# Altium schematic symbol library TDII_Lib_V2.SchLib: 28 symbols
Pins are listed as number, name and electrical type; pins without a type are passive.

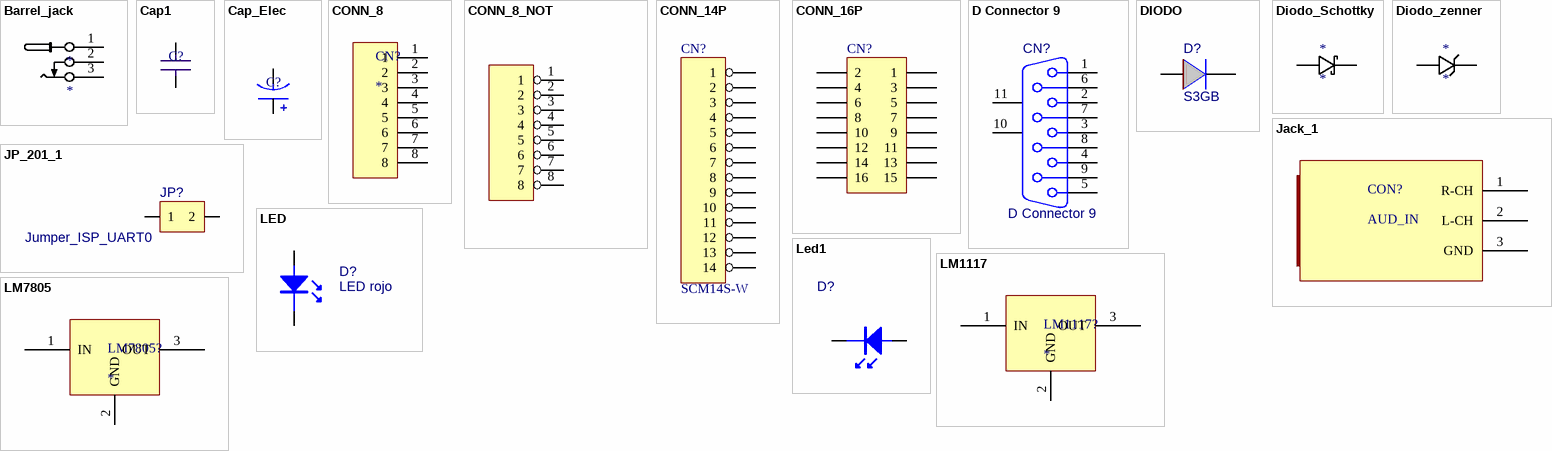
[diagram p0: symbols Barrel_jack to LM7805]

## Barrel_jack
designator *
pins: 1, 2, 3

## Cap1
designator C?  (value not drawn)
Capacitor; C: *
footprint 0805 (Pasivo 0805)
pins: 1, 2

## Cap_Elec
designator C?, comment C  (value not drawn)
Capacitor; Material: *; Part number: *
footprint 0805 (Pasivo 0805)
pins: 1, 2

## CONN_8
designator CN?
Connector 8 Vias
pins: 1, 2, 3, 4, 5, 6, 7, 8

## CONN_8_NOT
designator CN?
Connector 8 Vias with point
pins: 1, 2, 3, 4, 5, 6, 7, 8

## CONN_14P
designator CN?, comment SCM14S-W
Connector 14 Vias
pins: 1, 2, 3, 4, 5, 6, 7, 8, 9, 10, 11, 12, 13, 14

## CONN_16P
designator CN?
Connector 16 Vias
pins: 1, 2, 3, 4, 5, 6, 7, 8, 9, 10, 11, 12, 13, 14, 15, 16

## D Connector 9
designator CN?
Receptacle Assembly, 9 Position, Right Angle; Revision: 17-Jul-2002: Re-released for DXP Platform.
pins: 1, 2, 3, 4, 5, 6, 7, 8, 9, 10 MH1, 11 MH2

## DIODO
designator D?, comment S3GB
Diode signal
footprint D_SMA
pins: 1 A, 2 K

## Diodo_Schottky
designator *
pins: A, K

## Diodo_zenner
designator *
pins: A, K

## Jack_1
designator CON?, comment AUD_IN
pins: 1 R-CH, 2 L-CH, 3 GND

## JP_201_1
designator JP?, comment Jumper_ISP_UART0
Jumper
pins: 1, 2

## LED
designator D?, comment LED rojo
LED
footprint rb-.1/.2
footprint led3000
pins: 1, 2

## Led1
designator D?
Led
pins: 1 A, 2 K

## LM1117
designator LM1117?
Regulador 3V3
pins: 1 IN, 2 GND, 3 OUT

## LM7805
designator LM7805?
Regulador 5V
pins: 1 IN, 2 GND, 3 OUT

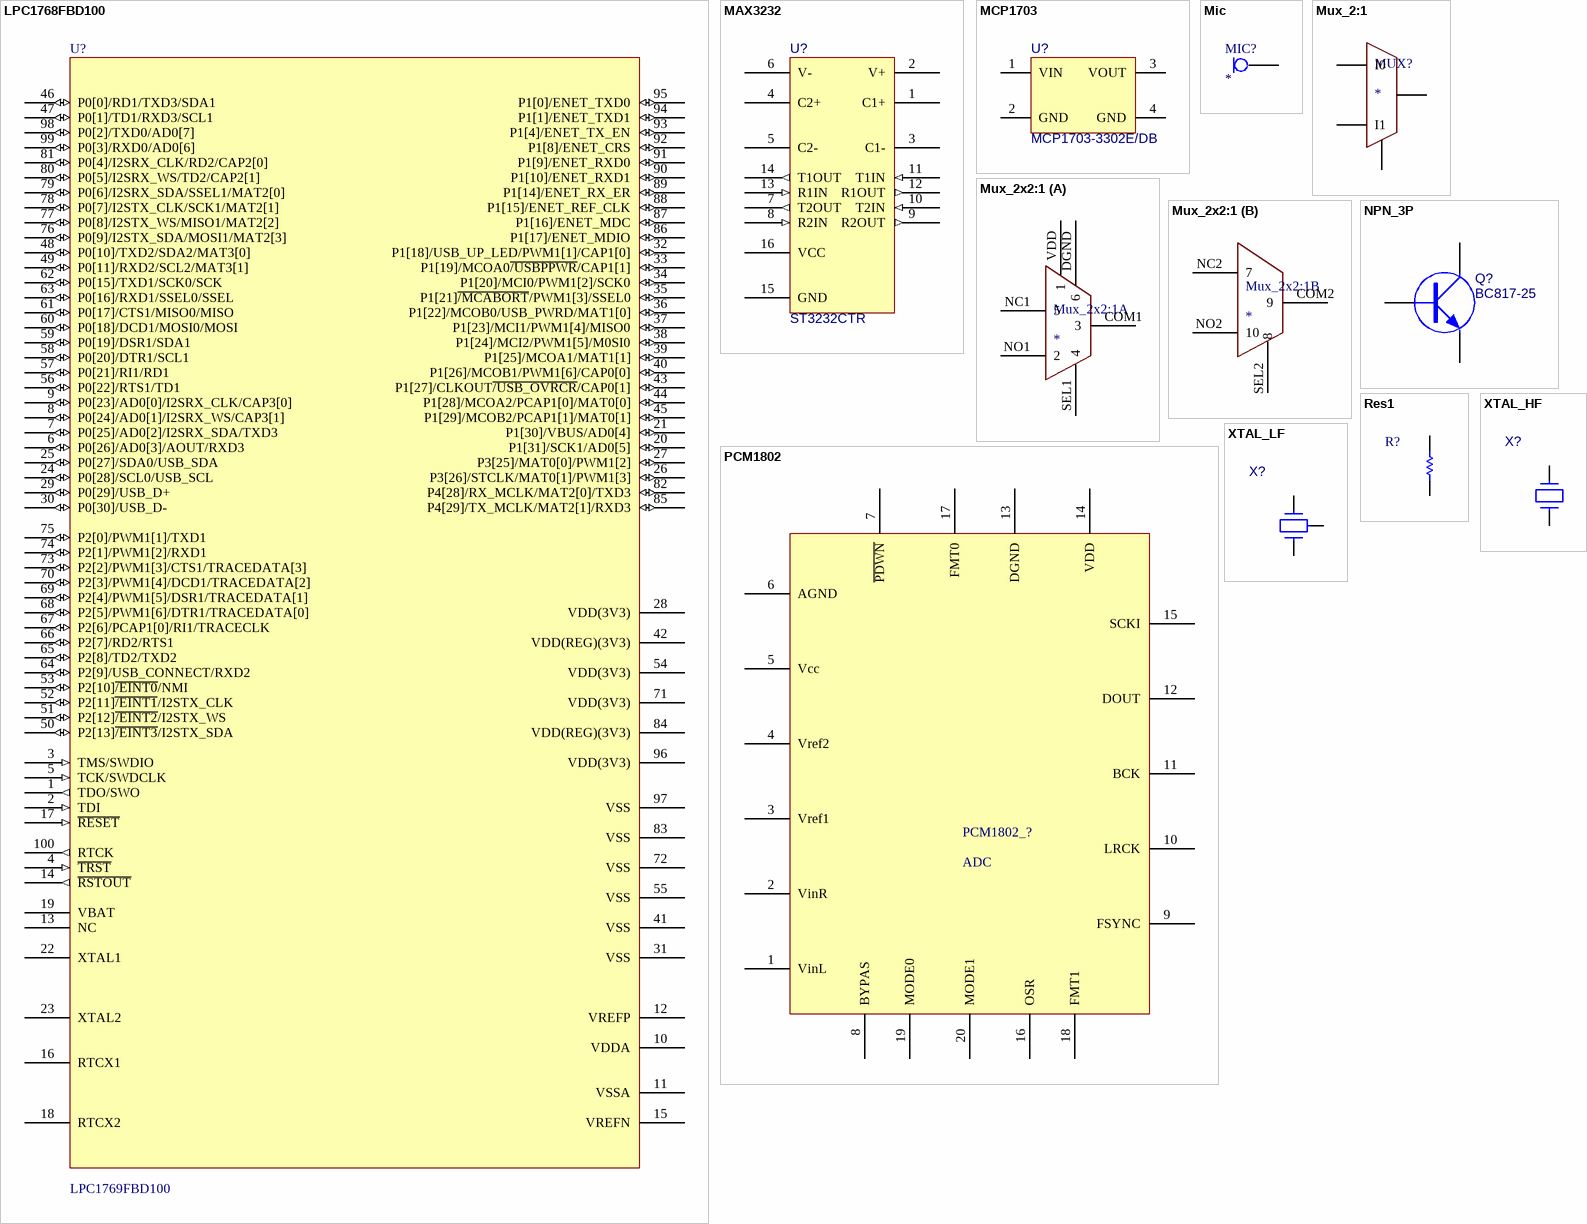
[diagram p1: symbols LPC1768FBD100 to XTAL_LF]

## LPC1768FBD100
designator U?, comment LPC1769FBD100
CPU Cortex M3
footprint LQFP100
pins: 1 TDO/SWO (out), 2 TDI (in), 3 TMS/SWDIO (in), 4 ~{TRST} (in), 5 TCK/SWDCLK (in), 6 P0[26]/AD0[3]/AOUT/RXD3 (io), 7 P0[25]/AD0[2]/I2SRX_SDA/TXD3 (io), 8 P0[24]/AD0[1]/I2SRX_WS/CAP3[1] (io), 9 P0[23]/AD0[0]/I2SRX_CLK/CAP3[0] (io), 10 VDDA (power), 11 VSSA (power), 12 VREFP (power), 13 NC, 14 ~{RSTOUT} (out), 15 VREFN (power), 16 RTCX1, 17 ~{RESET} (in), 18 RTCX2, 19 VBAT (power), 20 P1[31]/SCK1/AD0[5] (io), 21 P1[30]/VBUS/AD0[4] (io), 22 XTAL1, 23 XTAL2, 24 P0[28]/SCL0/USB_SCL (io), 25 P0[27]/SDA0/USB_SDA (io), 26 P3[26]/STCLK/MAT0[1]/PWM1[3] (io), 27 P3[25]/MAT0[0]/PWM1[2] (io), 28 VDD(3V3) (power), 29 P0[29]/USB_D+ (io), 30 P0[30]/USB_D- (io), 31 VSS (power), 32 P1[18]/USB_UP_LED/PWM1[1]/CAP1[0] (io), 33 P1[19]/MCOA0~{/USBPPWR}/CAP1[1] (io), 34 P1[20]/MCI0/PWM1[2]/SCK0 (io), 35 P1[21]~{/MCABORT}/PWM1[3]/SSEL0 (io), 36 P1[22]/MCOB0/USB_PWRD/MAT1[0] (io), 37 P1[23]/MCI1/PWM1[4]/MISO0 (io), 38 P1[24]/MCI2/PWM1[5]/M0SI0 (io), 39 P1[25]/MCOA1/MAT1[1] (io), 40 P1[26]/MCOB1/PWM1[6]/CAP0[0] (io), 41 VSS (power), 42 VDD(REG)(3V3) (power), 43 P1[27]/CLKOUT~{/USB_OVRCR}/CAP0[1] (io), 44 P1[28]/MCOA2/PCAP1[0]/MAT0[0] (io), 45 P1[29]/MCOB2/PCAP1[1]/MAT0[1] (io), 46 P0[0]/RD1/TXD3/SDA1 (io), 47 P0[1]/TD1/RXD3/SCL1 (io), 48 P0[10]/TXD2/SDA2/MAT3[0] (io), 49 P0[11]/RXD2/SCL2/MAT3[1] (io), 50 P2[13]~{/EINT3}/I2STX_SDA (io), 51 P2[12]~{/EINT2}/I2STX_WS (io), 52 P2[11]~{/EINT1}/I2STX_CLK (io), 53 P2[10]~{/EINT0}/NMI (io), 54 VDD(3V3) (power), 55 VSS (power), 56 P0[22]/RTS1/TD1 (io), 57 P0[21]/RI1/RD1 (io), 58 P0[20]/DTR1/SCL1 (io), 59 P0[19]/DSR1/SDA1 (io), 60 P0[18]/DCD1/MOSI0/MOSI (io), 61 P0[17]/CTS1/MISO0/MISO (io), 62 P0[15]/TXD1/SCK0/SCK (io), 63 P0[16]/RXD1/SSEL0/SSEL (io), 64 P2[9]/USB_CONNECT/RXD2 (io), 65 P2[8]/TD2/TXD2 (io), 66 P2[7]/RD2/RTS1 (io), 67 P2[6]/PCAP1[0]/RI1/TRACECLK (io), 68 P2[5]/PWM1[6]/DTR1/TRACEDATA[0] (io), 69 P2[4]/PWM1[5]/DSR1/TRACEDATA[1] (io), 70 P2[3]/PWM1[4]/DCD1/TRACEDATA[2] (io), 71 VDD(3V3) (power), 72 VSS (power), 73 P2[2]/PWM1[3]/CTS1/TRACEDATA[3] (io), 74 P2[1]/PWM1[2]/RXD1 (io), 75 P2[0]/PWM1[1]/TXD1 (io), 76 P0[9]/I2STX_SDA/MOSI1/MAT2[3] (io), 77 P0[8]/I2STX_WS/MISO1/MAT2[2] (io), 78 P0[7]/I2STX_CLK/SCK1/MAT2[1] (io), 79 P0[6]/I2SRX_SDA/SSEL1/MAT2[0] (io), 80 P0[5]/I2SRX_WS/TD2/CAP2[1] (io), 81 P0[4]/I2SRX_CLK/RD2/CAP2[0] (io), 82 P4[28]/RX_MCLK/MAT2[0]/TXD3 (io), 83 VSS (power), 84 VDD(REG)(3V3) (power), 85 P4[29]/TX_MCLK/MAT2[1]/RXD3 (io), 86 P1[17]/ENET_MDIO (io), 87 P1[16]/ENET_MDC (io), 88 P1[15]/ENET_REF_CLK (io), 89 P1[14]/ENET_RX_ER (io), 90 P1[10]/ENET_RXD1 (io), 91 P1[9]/ENET_RXD0 (io), 92 P1[8]/ENET_CRS (io), 93 P1[4]/ENET_TX_EN (io), 94 P1[1]/ENET_TXD1 (io), 95 P1[0]/ENET_TXD0 (io), 96 VDD(3V3) (power), 97 VSS (power), 98 P0[2]/TXD0/AD0[7] (io), 99 P0[3]/RXD0/AD0[6] (io), 100 RTCK (out)

## MAX3232
designator U?, comment ST3232CTR
RS232 Transeiver
pins: 1 C1+, 2 V+, 3 C1-, 4 C2+, 5 C2-, 6 V-, 7 T2OUT (out), 8 R2IN (in), 9 R2OUT (out), 10 T2IN (in), 11 T1IN (in), 12 R1OUT (out), 13 R1IN (in), 14 T1OUT (out), 15 GND (power), 16 VCC (power)

## MCP1703
designator U?, comment MCP1703-3302E/DB
LDO
pins: 1 VIN (power), 2 GND (power), 3 VOUT (power), 4 GND (power)

## Mic
designator MIC?
Microfono
pins: 1

## Mux_2:1
designator MUX?
Multiplexor 2:1
pins: 1 I0, 2 I1, 3, 4 s

## Mux_2x2:1
designator Mux_2x2:1
part A pins: COM1 3, DGND 6, NC1 5, NO1 2, SEL1 4, VDD 1
part B pins: COM2 9, NC2 7, NO2 10, SEL2 8

## NPN_3P
designator Q?, comment BC817-25
NPN transistor
pins: 1 B, 2 E, 3 C

## PCM1802
designator PCM1802_?, comment ADC
PCM1802
pins: 1 VinL, 2 VinR, 3 Vref1, 4 Vref2, 5 Vcc, 6 AGND, 7 ~{PDWN}, 8 BYPAS, 9 FSYNC, 10 LRCK, 11 BCK, 12 DOUT, 13 DGND, 14 VDD, 15 SCKI, 16 OSR, 17 FMT0, 18 FMT1, 19 MODE0, 20 MODE1

## Res1
designator R?
Resistor
footprint 0805 (Pasivo 0805)
pins: 1, 2

## XTAL_HF
designator X?
Crystal
pins: 1, 2

## XTAL_LF
designator X?
Crystal
pins: 1, 2, 3